# EAGLE library part MINISDCARD (library reprap)
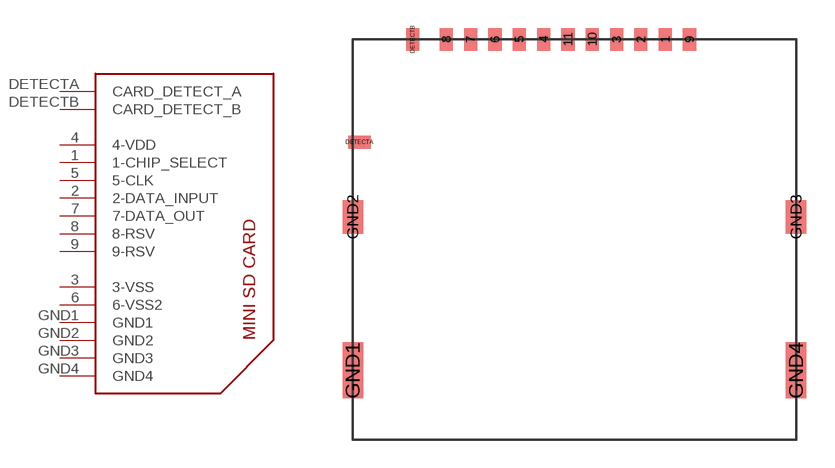
[diagram p12: symbol with the pads of DM2A; footprint DM2A]

Designator prefix -

## MINISDCARD  [DM2A]
1  1-CHIP_SELECT
2  2-DATA_INPUT
3  3-VSS
4  4-VDD
5  5-CLK
6  6-VSS2
7  7-DATA_OUT
8  8-RSV
9  9-RSV
DETECTA  CARD_DETECT_A
DETECTB  CARD_DETECT_B
GND1  GND1
GND2  GND2
GND3  GND3
GND4  GND4

## Footprint DM2A (pad centres in mm)
DM2A miniSD connector
smd 0.7 x 1.2: 1 16.7,17.7; 2 15.4,17.7; 3 14.1,17.7; 4 10.2,17.7; 5 8.9,17.7; 6 7.6,17.7; 7 6.3,17.7; 8 5,17.7; 9 18,17.7; 10 12.8,17.7; 11 11.5,17.7; DETECTB 3.2,17.7
smd 1.2 x 0.7: DETECTA 0.35,12.2
smd 1.1 x 3: GND1 0,0; GND4 23.7,0
smd 1.1 x 1.8: GND2 0,8.2; GND3 23.7,8.2